# EAGLE library part TPS25910 (library RNH_TPS25910)
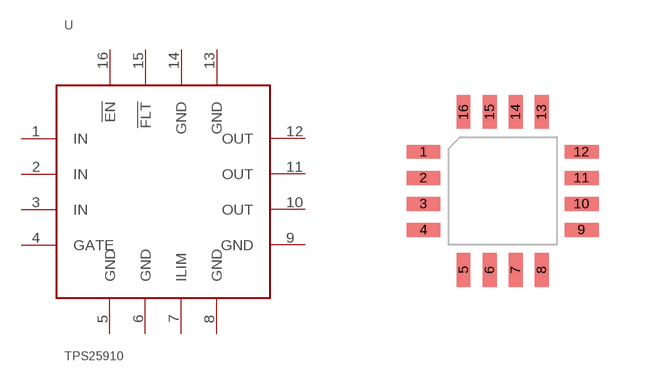
[diagram p0: symbol with the pads of QFN-306; footprint QFN-306]

Designator prefix -

## TPS25910QFN-16  [QFN-306]
1  IN
2  IN
3  IN
4  GATE
5  GND  pwr
6  GND  pwr
7  ILIM
8  GND  pwr
9  GND  pwr
10  OUT
11  OUT
12  OUT
13  GND  pwr
14  GND  pwr
15  !FLT
16  !EN

## Footprint QFN-306 (pad centres in mm)
smd 0.85 x 0.35: 1 -1.975,0.975; 2 -1.975,0.325; 3 -1.975,-0.325; 4 -1.975,-0.975; 9 1.975,-0.975; 10 1.975,-0.325; 11 1.975,0.325; 12 1.975,0.975
smd 0.35 x 0.85: 5 -0.975,-1.975; 6 -0.325,-1.975; 7 0.325,-1.975; 8 0.975,-1.975; 13 0.975,1.975; 14 0.325,1.975; 15 -0.325,1.975; 16 -0.975,1.975